# Altium schematic symbol library LT1461ACS8-3.SchLib: 1 symbol
Pins are listed as number, name and electrical type; pins without a type are passive.

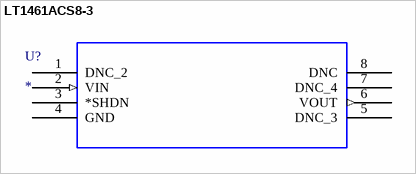
[diagram p0: symbol LT1461ACS8-3]

## LT1461ACS8-3
designator U?
MF: {'manufacturer': u'Analog Devices / Linear Technology'}; MP: LT1461ACS8-3; Price: None; Value: *; Availability: Unavailable; Package: None
footprint SO-8_S
pins: 1 DNC_2, 2 VIN (in), 3 *SHDN, 4 GND (power), 5 DNC_3, 6 VOUT (out), 7 DNC_4, 8 DNC